# Altium schematic symbol library SSClib1.SchLib: 25 symbols
Pins are listed as number, name and electrical type; pins without a type are passive.

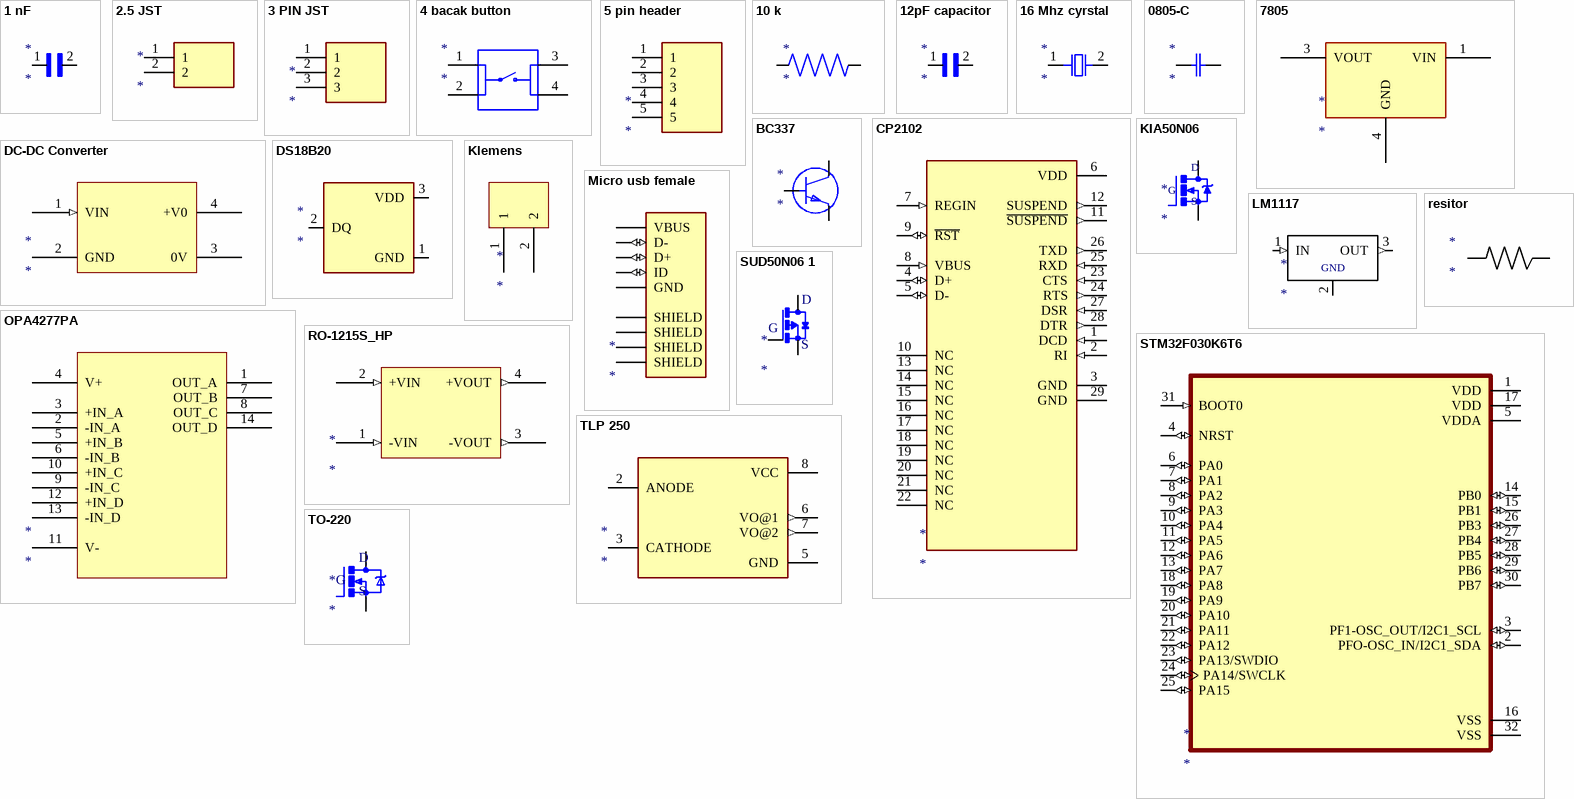
[diagram p0: symbols 1 nF to TO-220]

## 1 nF
designator *
footprint 1nF
pins: 1, 2

## 2.5 JST
designator *
footprint 2.5 JST
pins: 1, 2

## 3 PIN JST
designator *
footprint 3 PIN JST
pins: 1, 2, 3

## 4 bacak button
designator *
footprint 4 bacak button
pins: 1, 2, 3, 4

## 5 pin header
designator *
footprint 5 pin header
pins: 1, 2, 3, 4, 5

## 10 k
designator *
footprint 10 k
pins: 1, 2

## 12pF capacitor
designator *
footprint 12pF capacitor
pins: 1, 2

## 16 Mhz cyrstal
designator *
footprint 16 Mhz cyrstal
pins: 1, 2

## 0805-C
designator *
footprint 0805-c
pins: 1 C1, 2 C2

## 7805
designator *
footprint 7805
pins: 1 VIN, 3 VOUT, 4 GND

## BC337
designator *
footprint BC337
pins: 1 E, 2 B, 3 C

## CP2102
designator *
footprint CP2102
pins: 1 DCD (in), 2 RI (in), 3 GND (power), 4 D+ (io), 5 D- (io), 6 VDD (power), 7 REGIN (in), 8 VBUS (in), 9 ~{RST} (io), 10 NC, 11 ~{SUSPEND} (out), 12 SUSPEND (out), 13 NC, 14 NC, 15 NC, 16 NC, 17 NC, 18 NC, 19 NC, 20 NC, 21 NC, 22 NC, 23 CTS (in), 24 RTS (out), 25 RXD (in), 26 TXD (out), 27 DSR (in), 28 DTR (out), 29 GND (power)

## DC-DC Converter
designator *
footprint DC-DC Converter
pins: 1 VIN (in), 2 GND, 3 0V, 4 +V0

## DS18B20
designator *
footprint DS18B20
pins: 1 GND (power), 2 DQ (io), 3 VDD (power)

## KIA50N06
designator *
footprint KIA50N06
pins: 1 G, 2 D, 3 S

## Klemens
designator *
footprint Klemens
pins: 1, 2

## LM1117
designator *
footprint LM1117
pins: 1 IN (in), 2 GND (power), 3 OUT (out)

## Micro usb female
designator *
footprint Micro usb female
pins: 1 VBUS (power), 2 D- (io), 3 D+ (io), 4 ID (io), 5 GND (power), 6 SHIELD (power), 7 SHIELD (power), 8 SHIELD (power), 9 SHIELD (power)

## OPA4277PA
designator *
footprint OPA4277PA
pins: 1 OUT_A, 2 -IN_A, 3 +IN_A, 4 V+, 5 +IN_B, 6 -IN_B, 7 OUT_B, 8 OUT_C, 9 -IN_C, 10 +IN_C, 11 V-, 12 +IN_D, 13 -IN_D, 14 OUT_D

## resitor
designator *
footprint Reisitor

## RO-1215S_HP
designator *
footprint RO-1215S_HP
pins: 1 -VIN (in), 2 +VIN (in), 3 -VOUT (out), 4 +VOUT (out)

## STM32F030K6T6
designator *
footprint STM32F030K6T6
pins: 1 VDD (power), 2 PFO-OSC_IN/I2C1_SDA (io), 3 PF1-OSC_OUT/I2C1_SCL (io), 4 NRST (io), 5 VDDA (power), 6 PA0 (io), 7 PA1 (io), 8 PA2 (io), 9 PA3 (io), 10 PA4 (io), 11 PA5 (io), 12 PA6 (io), 13 PA7 (io), 14 PB0 (io), 15 PB1 (io), 16 VSS (power), 17 VDD (power), 18 PA8 (io), 19 PA9 (io), 20 PA10 (io), 21 PA11 (io), 22 PA12 (io), 23 PA13/SWDIO (io), 24 PA14/SWCLK (io), 25 PA15 (io), 26 PB3 (io), 27 PB4 (io), 28 PB5 (io), 29 PB6 (io), 30 PB7 (io), 31 BOOT0 (in), 32 VSS (power)

## SUD50N06 1
designator *
footprint SUD50N06
pins: 1 G, 3 S, 4 D

## TLP 250
designator *
footprint TLP 250
pins: 2 ANODE, 3 CATHODE, 5 GND (power), 6 VO@1 (out), 7 VO@2 (out), 8 VCC (power)

## TO-220
designator *
footprint TO-220
pins: D, G, S